# Altium footprint library YAYAT-LIB.PcbLib: 42 footprints (part 3 of 3)
Each footprint in its own frame and in the unit in brackets; x right, y up, seen from the top. Pads: shape width x height; smd on the part's side, far side on the other; paste and mask are expansions set on the pad; w line width, h text height; cw(c..) or ccw(c..) is an arc to the next point about the centre after c.
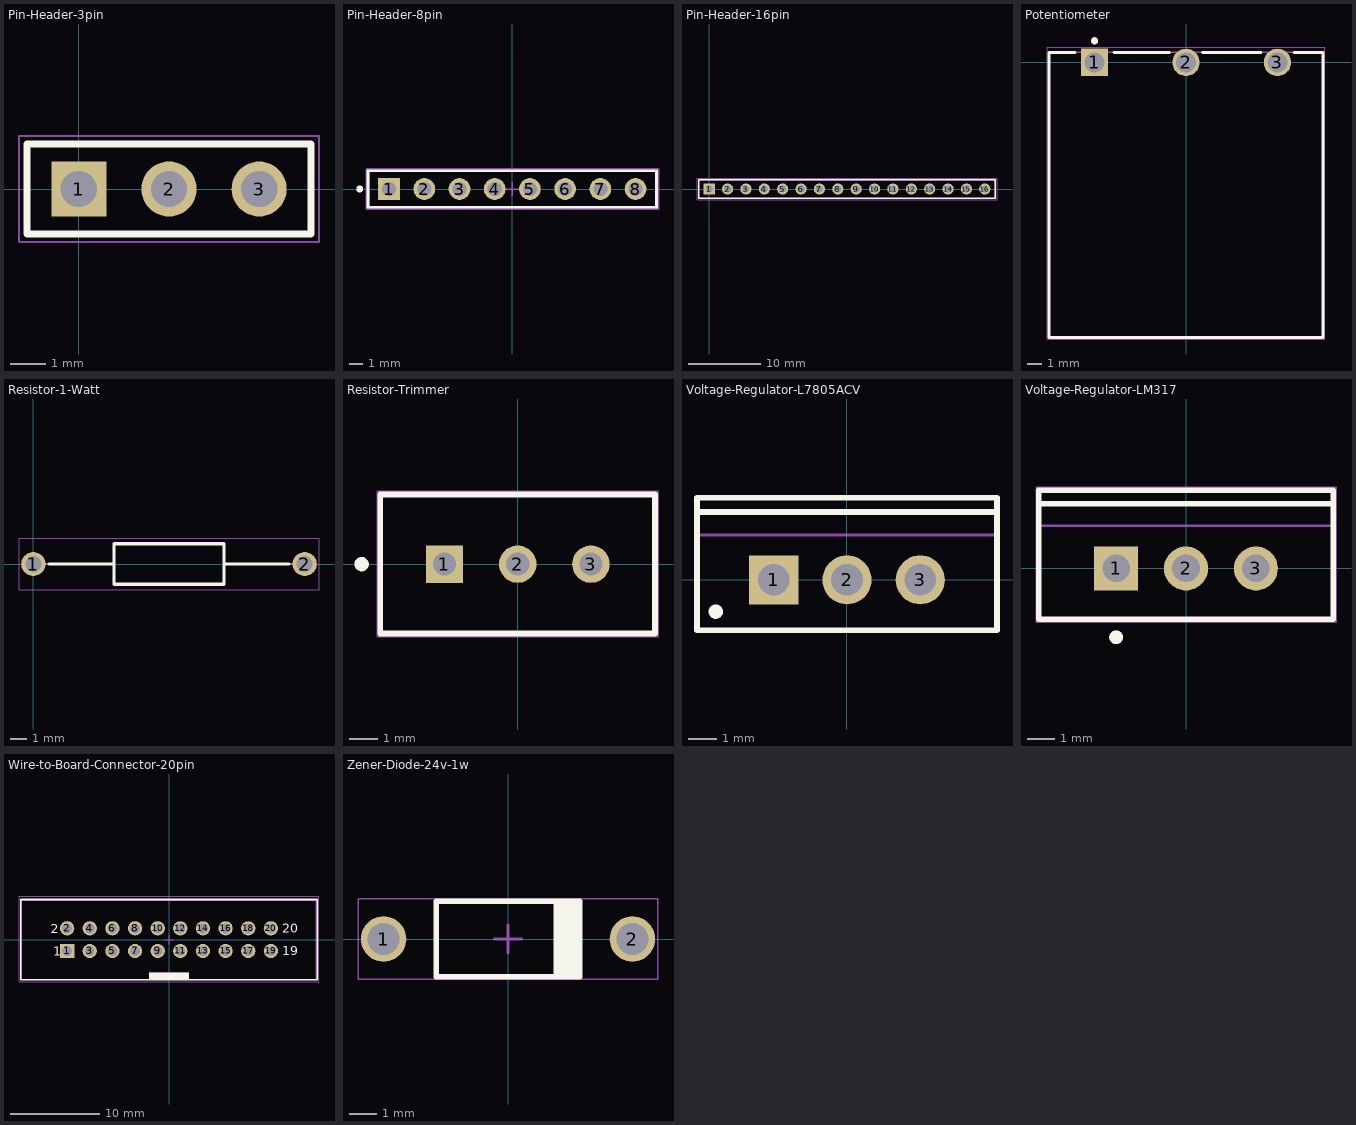
[diagram p2: the footprints below, top view; thin cyan lines are the x and y axes]

## Pin-Header-3pin [mm] ".025 SQ Post Terminal Strip Assembly, 1x3 Pins, Vertical, 2.54mm Pitch, Male"
height 8.58
pads (3):
  rect 1.55x1.55 hole 1.02: 1(0,0)
  round 1.55 hole 1.02: 2(2.54,0) 3(5.08,0)
Top Overlay:
  lines w0.2: -1.46,-1.27 -1.46,1.27 6.54,1.27 6.54,-1.27 -1.46,-1.27
Mechanical 13:
  lines w0.1: -1.46,-1.27 -1.46,1.27 6.54,1.27 6.54,-1.27 -1.46,-1.27
Mechanical 15:
  lines w0.05: -1.685,-1.495 -1.685,1.495 6.765,1.495 6.765,-1.495 -1.685,-1.495
3D body "TSW-103-07-X-S.step": height 8.38, standoff -2.54, extent -1.27,-1.27 6.35,1.27

## Pin-Header-8pin [mm]
pads (8):
  rect 1.57x1.57 hole 1.02 paste-1000 mask+0: 1(-8.89,0)
  round 1.57 hole 1.02 paste-1000 mask+0: 2(-6.35,0) 3(-3.81,0) 4(-1.27,0) 5(1.27,0) 6(3.81,0) 7(6.35,0) 8(8.89,0)
Top Overlay:
  circle w0.25: c-11.01,0 r0.125
  lines w0.2: -10.41,-1.32 10.41,-1.32 10.41,1.32 -10.41,1.32 -10.41,-1.32
Top 3D Body:
  lines w0.2: -10.41,-1.32 10.41,-1.32 10.41,1.32 -10.41,1.32 -10.41,-1.32
Top Assembly:
  lines w0.2: -10.51,-1.42 10.51,-1.42 10.51,1.42 -10.51,1.42 -10.51,-1.42
  text ".Designator" at 0,0.188 h1
Top Courtyard:
  lines w0.2: -10.51,-1.42 10.51,-1.42 10.51,1.42 -10.51,1.42 -10.51,-1.42
Top Component Center:
  lines w0.1: -0.5,0 0.5,0 ; 0,-0.5 0,0.5
3D body "Conn_Harwin_M20-9990846_eec.STEP": height 0.25, standoff 0, extent -10.51,-1.42 10.51,1.42

## Pin-Header-16pin [mm] ".025 SQ Post Terminal Strip Assembly, 1x16 Pins, Vertical, 2.54mm Pitch, Male"
height 8.58
pads (16):
  rect 1.55x1.55 hole 1.02: 1(0,0)
  round 1.55 hole 1.02: 2(2.54,0) 3(5.08,0) 4(7.62,0) 5(10.16,0) 6(12.7,0) 7(15.24,0) 8(17.78,0) 9(20.32,0) 10(22.86,0) 11(25.4,0) 12(27.94,0) 13(30.48,0) 14(33.02,0) 15(35.56,0) 16(38.1,0)
Top Overlay:
  lines w0.2: -1.46,-1.27 -1.46,1.27 39.56,1.27 39.56,-1.27 -1.46,-1.27
Mechanical 13:
  lines w0.1: -1.46,-1.27 -1.46,1.27 39.56,1.27 39.56,-1.27 -1.46,-1.27
Mechanical 15:
  lines w0.05: -1.685,-1.495 -1.685,1.495 39.785,1.495 39.785,-1.495 -1.685,-1.495
3D body "TSW-116-08-X-S.step": height 8.38, standoff -5.08, extent -1.27,-1.27 39.37,1.27

## Potentiometer [mm] "TH, 3-Leads, Body 19.81x19.05mm, Pitch 6.35mm"
height 9.525
pads (3):
  rect 1.9x1.9 hole 1.4: 1(-6.35,0)
  round 1.9 hole 1.4: 2(0,0) 3(6.35,0)
Top Overlay:
  circle w0.25: c-6.35,1.5 r0.125
  lines w0.2: -7.7,0.7 -9.525,0.7 -9.525,-19.11 9.525,-19.11 9.525,0.7 7.505,0.7 ; -5,0.7 -1.155,0.7 ; 1.155,0.7 5.195,0.7
Mechanical 13:
  lines w0.1: -9.525,-19.11 -9.525,0.7 9.525,0.7 9.525,-19.11 -9.525,-19.11
Mechanical 15:
  lines w0.05: -9.625,-19.21 9.625,-19.21 9.625,1.05 -9.625,1.05 -9.625,-19.21
  lines w0.1: -0.5,0 0.5,0 ; 0,-0.5 0,0.5
3D body: height 19.05, standoff 0, extent -9.522,-6.41 9.522,0.7
3D body: height 15.62, standoff 3.43, extent -6.093,-15.94 6.093,-6.41
3D body: height 12.7, standoff 6.35, extent -3.174,-19.11 3.174,-15.94

## Resistor-1-Watt [mm]
pads (2):
  round 1.5 hole 1: 1(0,0) 2(16.8,0)
Top Overlay:
  lines w0.2: 0.988,0 5,0 ; 11.8,0 15.812,0 ; 5,-1.25 5,1.25 11.8,1.25 11.8,-1.25 5,-1.25
Mechanical 13:
  lines w0.1: 0,0 5,0 ; 11.8,0 16.8,0 ; 5,-1.25 5,1.25 11.8,1.25 11.8,-1.25 5,-1.25
Mechanical 15:
  lines w0.05: -0.888,-1.6 -0.888,1.6 17.687,1.6 17.687,-1.6 -0.888,-1.6
3D body "OK1025E-R52.stp": height 2.49, standoff -2.5, extent -0.319,-1.248 17.122,1.248

## Resistor-Trimmer [mm] "THD, 3-Leads, Body 9.53x4.83mm, Pitch 2.54mm"
height 11.904
pads (3):
  rect 1.3x1.3 hole 0.8: 1(-2.54,0)
  round 1.3 hole 0.8: 2(0,0) 3(2.54,0)
Top Overlay:
  circle w0.25: c-5.415,0 r0.125
  lines w0.2: 4.765,-2.41 -4.765,-2.41 -4.765,2.42 4.765,2.42 4.765,-2.405
Mechanical 13:
  lines w0.1: -4.765,-2.41 4.765,-2.41 4.765,2.42 -4.765,2.42 -4.765,-2.41
Mechanical 15:
  lines w0.05: -4.865,-2.51 4.865,-2.51 4.865,2.52 -4.865,2.52 -4.865,-2.51
  lines w0.1: -0.5,0 0.5,0 ; 0,-0.5 0,0.5
3D body "3296W.stp": height 11.55, standoff -6.4, extent -4.762,-2.405 4.762,2.421

## Voltage-Regulator-L7805ACV [mm] "TO, Thru-Hole, Vertical, Heatsink Mounted; 3 In-Line Leads; Pitch 2.54 mm"
height 19.7
pads (3):
  rect 1.7x1.7 hole 1.1: 1(-2.54,0)
  round 1.7 hole 1.1: 2(0,0) 3(2.54,0)
Top Overlay:
  circle w0.25: c-4.55,-1.1 r0.125
  lines w0.2: -5.2,2.35 5.2,2.35 ; -5.2,-1.75 -5.2,2.85 5.2,2.85 5.2,-1.75 -5.2,-1.75
Mechanical 13:
  lines w0.1: -5.2,1.55 5.2,1.55 ; -5.2,-1.75 5.2,-1.75 5.2,2.85 -5.2,2.85 -5.2,-1.75
Mechanical 15:
  lines w0.1: -0.5,0 0.5,0 ; 0,-0.5 0,0.5
3D body: height 19.7, standoff 13.05, extent -5.199,1.551 5.199,2.849
3D body: height 13.05, standoff 3.5, extent -5.25,-1.8 5.25,2.9

## Voltage-Regulator-LM317 [mm] "FM, 3-Leads, Body 10.7x4.7mm, Pitch 2.54mm"
height 19.4
pads (3):
  rect 1.6x1.6 hole 1: 1(-2.54,0)
  round 1.6 hole 1: 2(0,0) 3(2.54,0)
Top Overlay:
  circle w0.25: c-2.54,-2.5 r0.125
  lines w0.2: -5.35,2.35 5.35,2.35 ; -5.35,-1.85 -5.35,2.85 5.35,2.85 5.35,-1.85 -5.35,-1.85
Mechanical 13:
  lines w0.1: -5.35,1.55 5.35,1.55 ; -5.35,-1.85 -5.35,2.85 5.35,2.85 5.35,-1.85 -5.35,-1.85
Mechanical 15:
  lines w0.05: -5.45,-1.95 5.45,-1.95 5.45,2.95 -5.45,2.95 -5.45,-1.95
  lines w0.1: -0.5,0 0.5,0 ; 0,-0.5 0,0.5
3D body: height 12.9, standoff 4, extent -5.4,-1.9 5.4,2.9
3D body: height 19.4, standoff 12.9, extent -5.349,1.551 5.349,2.849

## Wire-to-Board-Connector-20pin [mm] "20 pins, straight, gold plating"
height 9.1
pads (20):
  rect 1.6x1.6 hole 1.1: 1(-11.43,-1.27)
  round 1.6 hole 1.1: 2(-11.43,1.27) 3(-8.89,-1.27) 4(-8.89,1.27) 5(-6.35,-1.27) 6(-6.35,1.27) 7(-3.81,-1.27) 8(-3.81,1.27) 9(-1.27,-1.27) 10(-1.27,1.27) 11(1.27,-1.27) 12(1.27,1.27) 13(3.81,-1.27) 14(3.81,1.27) 15(6.35,-1.27) 16(6.35,1.27) 17(8.89,-1.27) 18(8.89,1.27) 19(11.43,-1.27) 20(11.43,1.27)
Top Overlay:
  rectangle: -2.25,-4.5 2.25,-3.7
  lines w0.2: -16.63,-4.5 -16.63,4.5 16.63,4.5 16.63,-4.5 -16.63,-4.5
  text "2" at -13.29,0.74 h1.02
  text "1" at -12.99,-1.8 h1.02
  text "20" at 12.69,0.8 h1.02
  text "19" at 12.69,-1.74 h1.02
Mechanical 13:
  rectangle: -2.25,-4.425 2.25,-3.7
  lines w0.1: -16.53,-4.425 16.53,-4.425 16.53,4.425 -16.53,4.425 -16.53,-4.425
Mechanical 15:
  lines w0.05: -0.5,0 0.5,0 ; 0,-0.5 0,0.5 ; -16.83,-4.7 -16.83,4.85 16.83,4.85 16.83,-4.7 -16.83,-4.7
3D body "61202021621.stp": height 9.13, standoff -2.98, extent -16.53,-4.425 16.53,4.75

## Zener-Diode-24v-1w [mm] "2-Leads, Axial leaded, Body 2.72x5.2mm, Pin Spacing 9mm"
height 2.72
pads (2):
  round 1.65 hole 1.15: 1(-4.5,0) 2(4.5,0)
Top Overlay:
  rectangle: 1.651,-1.357 2.6,1.36
  lines w0.2: -2.6,-1.36 -2.6,1.36 2.6,1.36 2.6,-1.36 -2.6,-1.36
Mechanical 13:
  lines w0.1: -2.6,-1.36 2.6,-1.36 2.6,1.36 -2.6,1.36 -2.6,-1.36
Mechanical 15:
  lines w0.05: -5.425,-1.46 -5.425,1.46 5.425,1.46 5.425,-1.46 -5.425,-1.46
  lines w0.1: -0.5,0 0.5,0 ; 0,-0.5 0,0.5
3D body: height 1.36, standoff -2, extent 4.073,-0.429 4.93,0.429
3D body: height 1.79, standoff 0.93, extent 4.075,-0.428 4.93,0.428
3D body: height 2.71, standoff 0, extent -2.6,-1.357 2.6,1.357
3D body: height 1.79, standoff 0.93, extent 2.6,-0.429 4.5,0.429
3D body: height 1.79, standoff 0.93, extent -4.5,-0.429 -2.6,0.429
3D body: height 1.79, standoff 0.93, extent -4.93,-0.428 -4.075,0.428
3D body: height 1.36, standoff -2, extent -4.93,-0.429 -4.073,0.429